# Altium integrated library PCIC.IntLib: 51 symbols
Pins are listed as number, name and electrical type; pins without a type are passive.

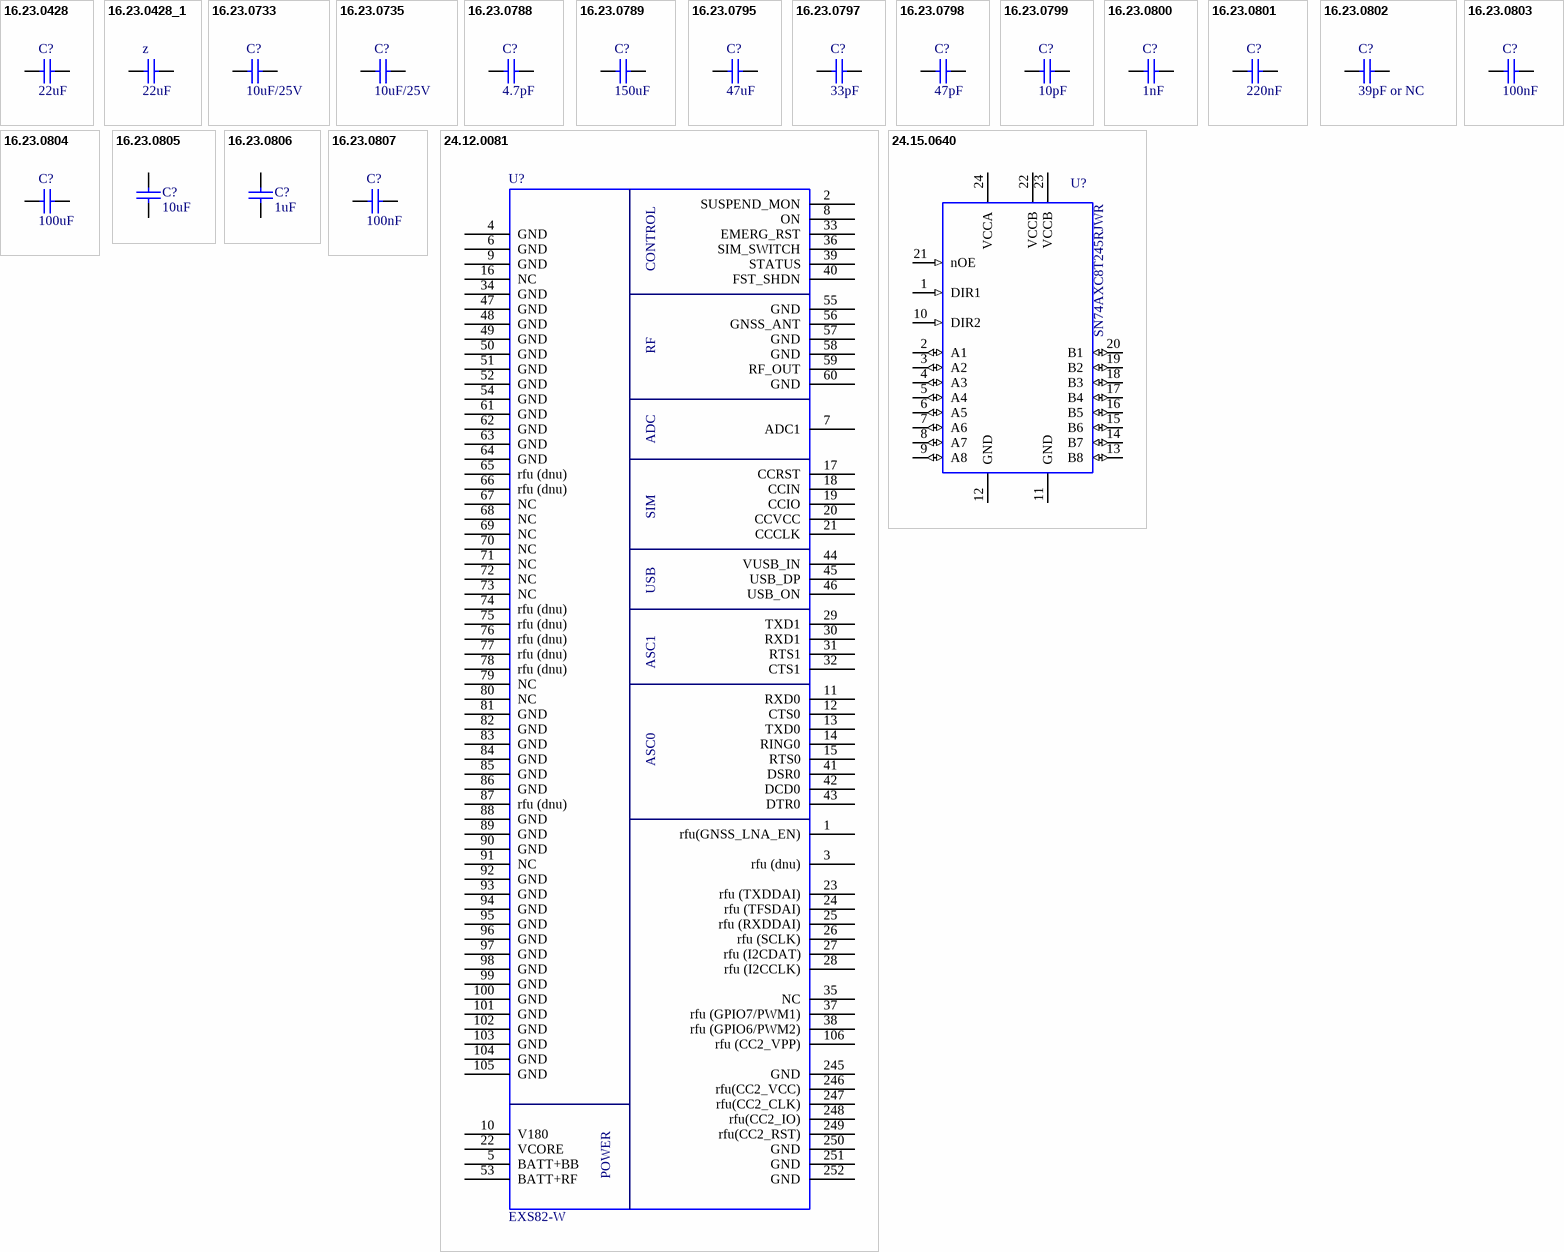
[diagram p0: symbols 16.23.0428 to 24.15.0640]

## 16.23.0428
designator C?  (value not drawn)
CC MUL 22uF 16V X5R 20% SMD 0805
footprint 16.23.0428 (CC MUL 22uF 16V X5R 20% SMD 0805)
pins: 1, 2
text: 22uF

## 16.23.0428_1
designator z, comment 16.23.0428  (value not drawn)
CC MUL 22uF 16V X5R 20% SMD 0805
footprint 16.23.0428 (CC MUL 22uF 16V X5R 20% SMD 0805)
pins: 1, 2
text: 22uF

## 16.23.0733
designator C?  value 10uF/25V  (hidden comment: 16.23.0733)
CAPACITOR CERAMICO MULTICAMADAS 10uF 25V 20% SMD 0603 X5R; Part Number: GRM188R61E106MA73; Fabricante: Murata
footprint 16.23.0733 (CAPACITOR CERAMICO MULTICAMADAS 10uF 25V X5R 20% SMD 0603)
pins: 1, 2

## 16.23.0735
designator C?  value 10uF/25V  (hidden comment: 16.23.0735)
CAPACITOR CERAMICO MULTICAMADAS 10uF 25V 10% SMD 0805 X5R; Part Number: GRM21BR61E106KA73; Fabricante: Murata
footprint 16.23.0735 (CAPACITOR CERAMICO MULTICAMADAS 10uF 25V X5R 10% SMD 0805)
pins: 1, 2

## 16.23.0788
designator C?  (value not drawn)
CAPACITOR CERAMICO MULTICAMADA 4.7PF 50V C0G/NP0 0402
footprint 16.23.0788 (CAPACITOR CERAMICO MULTICAMADA 4.7PF 50V C0G/NP0 0402)
pins: 1, 2
text: 4.7pF

## 16.23.0789
designator C?  (value not drawn)
CAPACITOR CERAMICO 150uF 20% 6.3V X5R SMD 1206
footprint 16.23.0789 (CAPACITOR CERAMICO 150uF 20% 6.3V X5R SMD 1206)
pins: 1, 2
text: 150uF

## 16.23.0795
designator C?  (value not drawn)
CERAMICO 47uF 10% 6.3V X5R SMD 1206
footprint 16.23.0795 (CAPACITOR CERAMICO 47uF 10% 6.3V X5R SMD 1206)
pins: 1, 2
text: 47uF

## 16.23.0797
designator C?  (value not drawn)
CAPACITOR CERAMICO 33pF 10V 5% C0G SMD 0201
footprint 16.23.0797 (CAPACITOR CERAMICO 33pF 10V 5% C0G SMD 0201)
pins: 1, 2
text: 33pF

## 16.23.0798
designator C?  (value not drawn)
CAPACITOR CERAMICO 47pF 10V 5% C0G SMD 0201
footprint 16.23.0798 (CAPACITOR CERAMICO 47pF 10V 5% C0G SMD 0201)
pins: 1, 2
text: 47pF

## 16.23.0799
designator C?  (value not drawn)
CAPACITOR CERAMICO 10pF 25V 5% C0G SMD 0201
footprint 16.23.0799 (CAPACITOR CERAMICO 10pF 25V 5% C0G SMD 0201)
pins: 1, 2
text: 10pF

## 16.23.0800
designator C?  (value not drawn)
CAPACITOR CERAMICO 1nF 25V 5% X7R SMD 0201
footprint 16.23.0800 (CAPACITOR CERAMICO 1nF 25V 5% X7R SMD 0201)
pins: 1, 2
text: 1nF

## 16.23.0801
designator C?  (value not drawn)
CAPACITOR CERAMICO 220nF 16V 10% X5R SMD 0201
footprint 16.23.0801 (CAPACITOR CERAMICO 220nF 16V 10% X5R SMD 0201)
pins: 1, 2
text: 220nF

## 16.23.0802
designator C?  (value not drawn)
CAPACITOR CERAMICO 39pF 100V 5% C0G SMD 0201
footprint 16.23.0802 (CAPACITOR CERAMICO 39pF 100V 5% C0G SMD 0201)
pins: 1, 2
text: 39pF or NC

## 16.23.0803
designator C?  (value not drawn)
CAPACITOR CERAMICO 100nF 16V 10% X5R SMD 0201
footprint 16.23.0803 (CAPACITOR CERAMICO 100nF 16V 10%% X5R SMD 0201)
pins: 1, 2
text: 100nF

## 16.23.0804
designator C?  value 100uF  (hidden comment: 16.23.0804)
CAPACITOR CERAMICO 100uF 6.3V 10% X5R SMD 1206
footprint 16.23.0804 (CAPACITOR CERAMICO 100uF 6.3V 10%% X5R SMD 1206)
pins: 1, 2
1 alternate drawing of the same symbol

## 16.23.0805
designator C?  value 10uF  (hidden comment: 16.23.0805)
CAPACITOR CERAMICO MULTICAMADAS 10uF 10V X5R 10% SMD 0603
footprint 16.23.0805 (CAPACITOR CERAMICO MULTICAMADAS 10uF 10V X5R 10% SMD 0603)
pins: 1, 2

## 16.23.0806
designator C?  value 1uF  (hidden comment: 16.23.0806)
CAPACITOR CERAMICO MULTICAMADAS 1uF 10V X5R 20% SMD 0201
footprint 16.23.0806 (CAPACITOR CERAMICO MULTICAMADAS 1uF 10V X5R 20% SMD 0201)
pins: 1, 2

## 16.23.0807
designator C?  value 100nF  (hidden comment: 16.23.0807)
CAPACITOR CERAMICO MULTICAMADAS 100nF 50V X7R 10% SMD 0402
footprint 16.23.0807 (CAPACITOR CERAMICO MULTICAMADAS 100nF 50V X7R 10% SMD 0402)
pins: 1, 2

## 24.12.0081
designator U?  value EXS82-W  (hidden comment: 24.12.0081)
CIRCUITO INTEGRADO DIG MOD COMUNICACAO MULTI REDES EXS82-W
footprint 24.12.0081 (CIRCUITO INTEGRADO DIG MOD COMUNICACAO MULTI REDES EXS82-W)
pins: 1 rfu(GNSS_LNA_EN), 2 SUSPEND_MON, 3 rfu (dnu), 4 GND, 5 BATT+BB, 6 GND, 7 ADC1, 8 ON, 9 GND, 10 V180, 11 RXD0, 12 CTS0, 13 TXD0, 14 RING0, 15 RTS0, 16 NC, 17 CCRST, 18 CCIN, 19 CCIO, 20 CCVCC, 21 CCCLK, 22 VCORE, 23 rfu (TXDDAI), 24 rfu (TFSDAI), 25 rfu (RXDDAI), 26 rfu (SCLK), 27 rfu (I2CDAT), 28 rfu (I2CCLK), 29 TXD1, 30 RXD1, 31 RTS1, 32 CTS1, 33 EMERG_RST, 34 GND, 35 NC, 36 SIM_SWITCH, 37 rfu (GPIO7/PWM1), 38 rfu (GPIO6/PWM2), 39 STATUS, 40 FST_SHDN, 41 DSR0, 42 DCD0, 43 DTR0, 44 VUSB_IN, 45 USB_DP, 46 USB_ON, 47 GND, 48 GND, 49 GND, 50 GND, 51 GND, 52 GND, 53 BATT+RF, 54 GND, 55 GND, 56 GNSS_ANT, 57 GND, 58 GND, 59 RF_OUT, 60 GND, 61 GND, 62 GND, 63 GND, 64 GND, 65 rfu (dnu), 66 rfu (dnu), 67 NC, 68 NC, 69 NC, 70 NC, 71 NC, 72 NC, 73 NC, 74 rfu (dnu), 75 rfu (dnu), 76 rfu (dnu), 77 rfu (dnu), 78 rfu (dnu), 79 NC, 80 NC, 81 GND, 82 GND, 83 GND, 84 GND, 85 GND, 86 GND, 87 rfu (dnu), 88 GND, 89 GND, 90 GND, 91 NC, 92 GND, 93 GND, 94 GND, 95 GND, 96 GND, 97 GND, 98 GND, 99 GND, 100 GND, 101 GND, 102 GND, 103 GND, 104 GND, 105 GND, 106 rfu (CC2_VPP), 245 GND, 246 rfu(CC2_VCC), 247 rfu(CC2_CLK), 248 rfu(CC2_IO), 249 rfu(CC2_RST), 250 GND, 251 GND, 252 GND
2 alternate drawings of the same symbol
text: CONTROL; RF; ADC; SIM; USB; ASC1; ASC0; POWER

## 24.15.0640
designator U?  value SN74AXC8T245RJWR  (hidden comment: 24.15.0640)
CID CONVERSOR NIVEL ALIMENTACAO DUPLA DIRECAO CONTROLADA 8 BITS 0.65V - 3.6V
footprint 24.15.0640 (CID CONVERSOR NIVEL ALIMENTACAO DUPLA DIRECAO CONTROLADA 8 BITS 0.65V - 3.6V)
pins: 1 DIR1 (in), 2 A1 (io), 3 A2 (io), 4 A3 (io), 5 A4 (io), 6 A5 (io), 7 A6 (io), 8 A7 (io), 9 A8 (io), 10 DIR2 (in), 11 GND (power), 12 GND (power), 13 B8 (io), 14 B7 (io), 15 B6 (io), 16 B5 (io), 17 B4 (io), 18 B3 (io), 19 B2 (io), 20 B1 (io), 21 nOE (in), 22 VCCB (power), 23 VCCB (power), 24 VCCA (power)

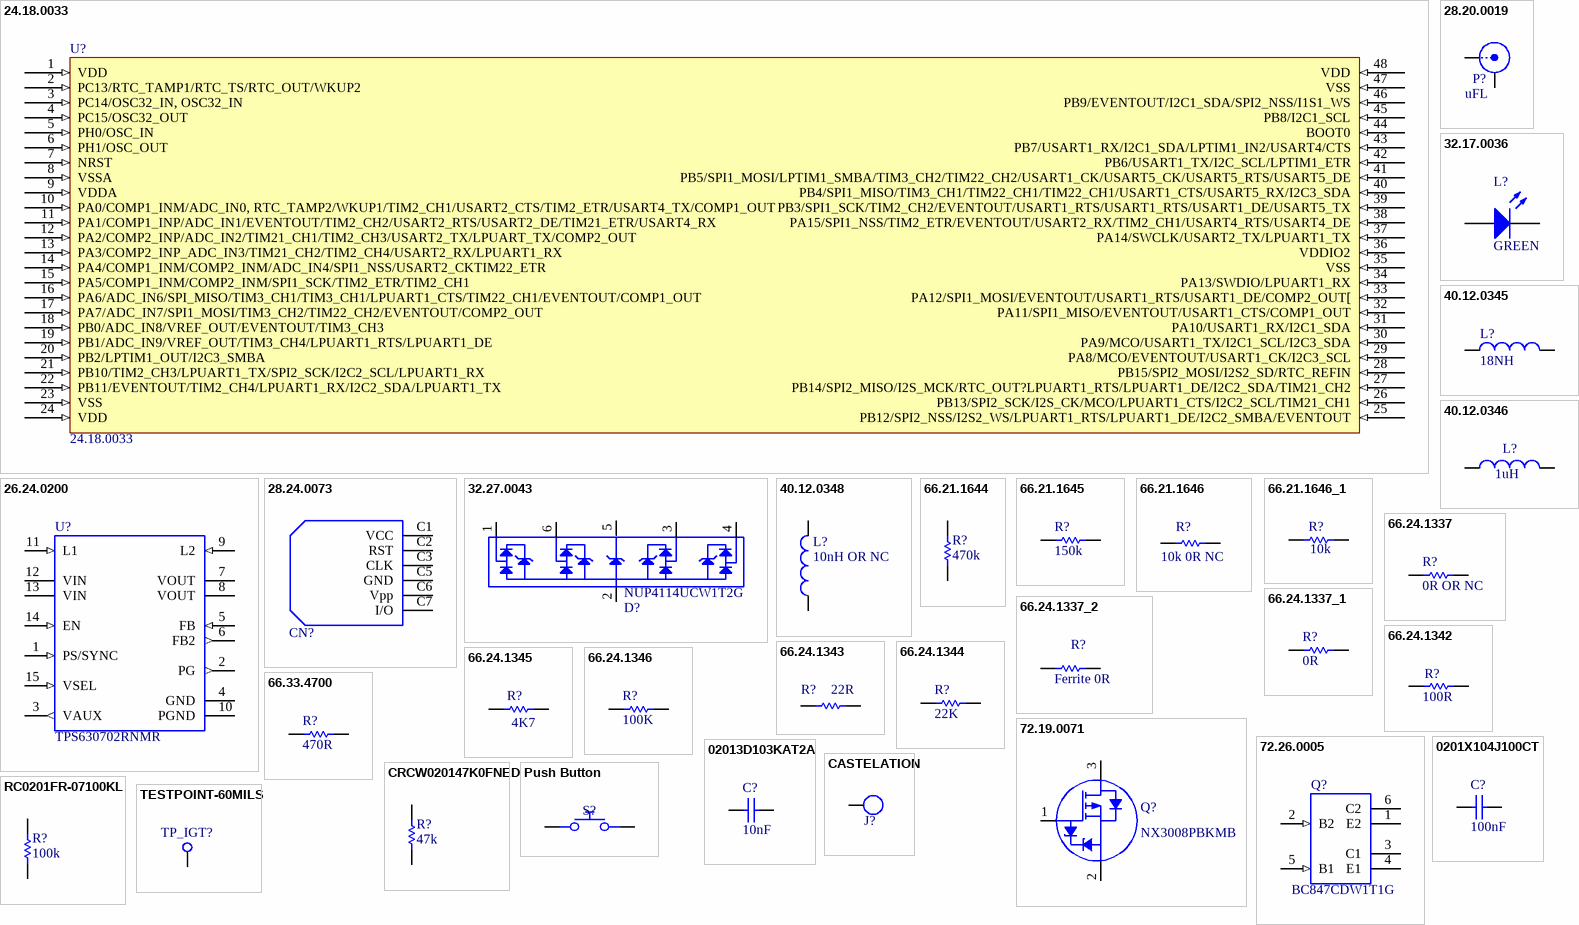
[diagram p1: symbols 24.18.0033 to TESTPOINT-60MILS]

## 24.18.0033
designator U?
MICROCONTROLADOR 32BITS ARM 192KB FLASH 48 PINOS LQFP; Part Number: STM32L071CZTx; Manufactor: STMICROELETRONICS; ComponentLink1Description: Value; ComponentLink1URL: STM32L071CZTx
footprint 24.18.0033 (MICROCONTROLADOR 32BITS ARM 192KB FLASH 48 PINOS LQFP)
pins: 1 VDD (in), 2 PC13/RTC_TAMP1/RTC_TS/RTC_OUT/WKUP2 (in), 3 PC14/OSC32_IN, OSC32_IN (in), 4 PC15/OSC32_OUT (in), 5 PH0/OSC_IN (in), 6 PH1/OSC_OUT (in), 7 NRST (in), 8 VSSA (in), 9 VDDA (in), 10 PA0/COMP1_INM/ADC_IN0, RTC_TAMP2/WKUP1/TIM2_CH1/USART2_CTS/TIM2_ETR/USART4_TX/COMP1_OUT (in), 11 PA1/COMP1_INP/ADC_IN1/EVENTOUT/TIM2_CH2/USART2_RTS/USART2_DE/TIM21_ETR/USART4_RX (in), 12 PA2/COMP2_INP/ADC_IN2/TIM21_CH1/TIM2_CH3/USART2_TX/LPUART_TX/COMP2_OUT (in), 13 PA3/COMP2_INP_ADC_IN3/TIM21_CH2/TIM2_CH4/USART2_RX/LPUART1_RX (in), 14 PA4/COMP1_INM/COMP2_INM/ADC_IN4/SPI1_NSS/USART2_CKTIM22_ETR (in), 15 PA5/COMP1_INM/COMP2_INM/SPI1_SCK/TIM2_ETR/TIM2_CH1 (in), 16 PA6/ADC_IN6/SPI_MISO/TIM3_CH1/TIM3_CH1/LPUART1_CTS/TIM22_CH1/EVENTOUT/COMP1_OUT (in), 17 PA7/ADC_IN7/SPI1_MOSI/TIM3_CH2/TIM22_CH2/EVENTOUT/COMP2_OUT (in), 18 PB0/ADC_IN8/VREF_OUT/EVENTOUT/TIM3_CH3 (in), 19 PB1/ADC_IN9/VREF_OUT/TIM3_CH4/LPUART1_RTS/LPUART1_DE (in), 20 PB2/LPTIM1_OUT/I2C3_SMBA (in), 21 PB10/TIM2_CH3/LPUART1_TX/SPI2_SCK/I2C2_SCL/LPUART1_RX (in), 22 PB11/EVENTOUT/TIM2_CH4/LPUART1_RX/I2C2_SDA/LPUART1_TX (in), 23 VSS (in), 24 VDD (in), 25 PB12/SPI2_NSS/I2S2_WS/LPUART1_RTS/LPUART1_DE/I2C2_SMBA/EVENTOUT (in), 26 PB13/SPI2_SCK/I2S_CK/MCO/LPUART1_CTS/I2C2_SCL/TIM21_CH1 (in), 27 PB14/SPI2_MISO/I2S_MCK/RTC_OUT?LPUART1_RTS/LPUART1_DE/I2C2_SDA/TIM21_CH2 (in), 28 PB15/SPI2_MOSI/I2S2_SD/RTC_REFIN (in), 29 PA8/MCO/EVENTOUT/USART1_CK/I2C3_SCL (in), 30 PA9/MCO/USART1_TX/I2C1_SCL/I2C3_SDA (in), 31 PA10/USART1_RX/I2C1_SDA (in), 32 PA11/SPI1_MISO/EVENTOUT/USART1_CTS/COMP1_OUT (in), 33 PA12/SPI1_MOSI/EVENTOUT/USART1_RTS/USART1_DE/COMP2_OUT[ (in), 34 PA13/SWDIO/LPUART1_RX (in), 35 VSS (in), 36 VDDIO2 (in), 37 PA14/SWCLK/USART2_TX/LPUART1_TX (in), 38 PA15/SPI1_NSS/TIM2_ETR/EVENTOUT/USART2_RX/TIM2_CH1/USART4_RTS/USART4_DE (in), 39 PB3/SPI1_SCK/TIM2_CH2/EVENTOUT/USART1_RTS/USART1_RTS/USART1_DE/USART5_TX (in), 40 PB4/SPI1_MISO/TIM3_CH1/TIM22_CH1/TIM22_CH1/USART1_CTS/USART5_RX/I2C3_SDA (in), 41 PB5/SPI1_MOSI/LPTIM1_SMBA/TIM3_CH2/TIM22_CH2/USART1_CK/USART5_CK/USART5_RTS/USART5_DE (in), 42 PB6/USART1_TX/I2C_SCL/LPTIM1_ETR (in), 43 PB7/USART1_RX/I2C1_SDA/LPTIM1_IN2/USART4/CTS (in), 44 BOOT0 (in), 45 PB8/I2C1_SCL (in), 46 PB9/EVENTOUT/I2C1_SDA/SPI2_NSS/I1S1_WS (in), 47 VSS (in), 48 VDD (in)

## 26.24.0200
designator U?  value TPS630702RNMR  (hidden comment: 26.24.0200)
CI REGULADOR TENSAO CHAV AJUST 2A16V 2A DESC SAIDA VQFN-HR
footprint 26.24.0200 (CI REGULADOR TENSAO CHAV AJUST 2A16V 2A DESC SAIDA VQFN-HR)
pins: 1 PS/SYNC (in), 2 PG (out), 3 VAUX (out), 4 GND, 5 FB (in), 6 FB2 (out), 7 VOUT (power), 8 VOUT (power), 9 L2 (in), 10 PGND (power), 11 L1 (in), 12 VIN (power), 13 VIN (power), 14 EN (in), 15 VSEL (in)

## 28.20.0019
designator P?  value uFL  (hidden comment: 28.20.0019)
CONECTOR MICRO COAXIAL 50 OHM SMD
footprint 28.20.0019 (CONECTOR MICRO COAXIAL 50 OHM SMD)
pins: 1 SIG, 2 GND (power), 3 GND (power)

## 28.24.0073
designator CN?, comment SIMCARD-6X6  (value not drawn)
CONECTOR FM NANO-D 6 VIAS - BRONZE
footprint 28.24.0073 (CONECTOR FM NANO-D 6 VIAS - BRONZE)
pins: C1 VCC, C2 RST, C3 CLK, C5 GND, C6 Vpp, C7 I/O

## 32.17.0036
designator L?  (value not drawn)
LED VERDE 0603 SMD
footprint 32.17.0036 (LED VERDE 0603 SMD)
pins: A, K
text: GREEN

## 32.27.0043
designator D?  (value not drawn)
DIODO SUPRESSOR 5.5V 10V SC88
footprint 32.27.0043 (DIODO SUPRESSOR 5.5V 10V SC88)
pins: 1, 2 (power), 3, 4, 5 (power), 6
text: NUP4114UCW1T2G

## 40.12.0345
designator L?  value 18NH  (hidden comment: 40.12.0345)
INDUTOR FIXO 18NH 370MA 270 MOHM 0402
footprint 40.12.0345 (INDUTOR FIXO 18NH 370MA 270 MOHM 0402)
pins: 1, 2

## 40.12.0346
designator L?  value 1uH  (hidden comment: 40.12.0346)
INDUTOR FIXO 1uH 20% 5A 36mOHM SMD 1008
footprint 40.12.0346 (INDUTOR FIXO 1uH 20% 5A 36mOHM SMD 1008)
pins: 1, 2

## 40.12.0348
designator L?  value 10nH OR NC  (hidden comment: 40.12.0348)
INDUTOR FIXO 10nH 3% 500mA 260mOHM 0402; Manufactor: MURATA; Part Number: LQG15HS10NH02D
footprint 40.12.0348 (INDUTOR FIXO 10nH 3% 500mA 260mOHM 0402)
pins: 1, 2

## 66.21.1644
designator R?  value 470k  (hidden comment: 66.21.1644)
RESISTOR THICK FILM 470k OHMS 25V 0.05W 1% SMD 0201
footprint 66.21.1644 (RESISTOR THICK FILM 470k OHMS 25V 0.05W 1% SMD 0201)
pins: 1, 2

## 66.21.1645
designator R?  value 150k  (hidden comment: 66.21.1645)
RESISTOR THICK FILM 150k OHMS 25V 0.05W 1% SMD 0201
footprint 66.21.1645 (RESISTOR THICK FILM 150k OHMS 25V 0.05W 1% SMD 0201)
pins: 1, 2

## 66.21.1646
designator R?  value 10k 0R NC  (hidden comment: 66.21.1646)
RESISTOR THICK FILM 10k OHMS 25V 0.05W 1% SMD 0201
footprint 66.21.1646 (RESISTOR THICK FILM 10k OHMS 25V 0.05W 1% SMD 0201)
pins: 1, 2

## 66.21.1646_1
designator R?, comment value 10k  (hidden comment: 66.21.1646)
RESISTOR THICK FILM 10k OHMS 25V 0.05W 1% SMD 0201
footprint 66.21.1646 (RESISTOR THICK FILM 10k OHMS 25V 0.05W 1% SMD 0201)
pins: 1, 2

## 66.24.1337
designator R?  value 0R OR NC  (hidden comment: 66.24.1337)
RESISTOR THICK FILM 0,1W 0 OHMS SMD 0603
footprint 66.24.1337 (RESISTOR THICK FILM 0,1W 0 OHMS SMD 0603)
pins: 1, 2

## 66.24.1337_1
designator R?, comment value 0R  (hidden comment: 66.24.1337)
RESISTOR THICK FILM 0,1W 0 OHMS SMD 0603
footprint 66.24.1337 (RESISTOR THICK FILM 0,1W 0 OHMS SMD 0603)
pins: 1, 2

## 66.24.1337_2
designator R?, comment value Ferrite 0R  (hidden comment: 66.24.1337)
RESISTOR THICK FILM 0,1W 0 OHMS SMD 0603
footprint 66.24.1337 (RESISTOR THICK FILM 0,1W 0 OHMS SMD 0603)
pins: 1, 2

## 66.24.1342
designator R?  value 100R  (hidden comment: 66.24.1342)
RESISTOR THICK FILM 50mW 100 OHMS 1% SMD 0201
footprint 66.24.1342 (RESISTOR THICK FILM 50mW 100 OHMS 1% SMD 0201)
pins: 1, 2

## 66.24.1343
designator R?  value 22R  (hidden comment: 66.24.1343)
RESISTOR THICK FILM 50mW 22 OHMS 1% SMD 0201
footprint 66.24.1343 (RESISTOR THICK FILM 50mW 22 OHMS 1% SMD 0201)
pins: 1, 2

## 66.24.1344
designator R?  value 22K  (hidden comment: 66.24.1344)
RESISTOR THICK FILM 50mW 22K OHMS 1% SMD 0201
footprint 66.24.1344 (RESISTOR THICK FILM 50mW 22K OHMS 1% SMD 0201)
pins: 1, 2

## 66.24.1345
designator R?  value 4K7  (hidden comment: 66.24.1345)
RESISTOR THICK FILM 50mW 4K7 OHMS 1% SMD 0201
footprint 66.24.1345 (RESISTOR THICK FILM 50mW 4K7 OHMS 1% SMD 0201)
pins: 1, 2

## 66.24.1346
designator R?  value 100K  (hidden comment: 66.24.1346)
RESISTOR THICK FILM 50mW 100K OHMS 1% SMD 0201
footprint 66.24.1346 (RESISTOR THICK FILM 50mW 100K OHMS 1% SMD 0201)
pins: 1, 2

## 66.33.4700
designator R?  value 470R  (hidden comment: 66.33.4700)
RES MET 0,125W 470 OHMS 5% SMD 0805
footprint 66.33.4700 (RES MET 0,125W 470 OHMS 5% SMD 0805)
pins: 1, 2

## 72.19.0071
designator Q?  (value not drawn)
MOSFET CANAL P SMD 30V 230mA SOT883B
footprint 72.19.0071 (MOSFET CANAL P SMD 30V 230mA SOT883B)
pins: 1 G, 2 S, 3 D
text: NX3008PBKMB

## 72.26.0005
designator Q?  (value not drawn)
TRANSISTOR DUPLO NPN BC847 SMD SOT363
footprint 72.26.0005 (TRANSISTOR DUPLO NPN BC847 SMD SOT363)
pins: 1 E2 (oe), 2 B2 (in), 3 C1 (oc), 4 E1 (oe), 5 B1 (in), 6 C2 (oc)
text: BC847CDW1T1G

## 0201X104J100CT
designator C?, comment Adicionado  (value not drawn)
CAPACITOR CERAMICO 100nF 10V 5% X5R SMD 0201
footprint 0201 (Adicionado)
pins: 1, 2
text: 100nF

## 02013D103KAT2A
designator C?, comment Adicionado  (value not drawn)
CAPACITOR CERAMICO 10nF 25V 10% C0G SMD 0201
footprint 0201 (Adicionado)
pins: 1, 2
text: 10nF

## CASTELATION
designator J?  (value not drawn)
footprint CASTELATION
pins: 1

## CRCW020147K0FNED
designator R?, comment value 47k  (hidden comment: Adicionado)
RESISTOR THICK FILM 47k OHMS 30V 50mW 1% SMD 0201
footprint 0201 (Adicionado)
pins: 1, 2

## Push Button
designator S?, comment Adicionado  (value not drawn)
TACTILE SWITCH SPST 0.05A 12VDC SMD; Manufacturer: C&K Switches; Part Number: PTS540JK035SMTRLFS; Voltage Rating (DC): 12V; Current Rating: 50mA; Switch Function: Off-On; Operating Force: 230gf; Library Control - Checked Footprint: Yes; Library Control - Person that Checked Schematic: Nícolas; Bounce time (MAX): 10ms; ComponentLink1Description: Datasheet; ComponentLink1URL: https://www.mouser.com/datasheet/2/60/pts540-1841856.pdf; ComponentLink2Description: Mouser Link; ComponentLink2URL: https://www.mouser.com/ProductDetail/CK/PTS540JK035SMTRLFS?qs=nsc5Ve2%252BdoHscnqTjIh87g%3D%3D; Supplier 1: Mouser; Category: Tactile Switches; Pricing 1: 1=0,18, 10=0,174, 100=0,15, 500=0,122, 1000=0,103 (USD); Throw Configuration: SPST; Orientation: Straight; Supplier Part Number 1: 611-PTS540JK035SMTRL; Library Ref: Diversos; Library Control - Checked Schematic: Yes; Library Control - Person that Checked Footprint: Nícolas; Library Control - Person that did the Last Update Schematic: Nícolas
footprint PUSH_BUTTON
pins: 1, 2

## RC0201FR-07100KL
designator R?, comment value 100k  (hidden comment: Adicionado)
RESISTOR THICK FILM 100k OHMS 25V 50mW 1% SMD 0201
footprint 0201 (Adicionado)
pins: 1, 2

## TESTPOINT-60MILS
designator TP_IGT?, comment TESTPOINT  (value not drawn)
PONTO DE TESTE PARA CAMA DE PREGO
footprint TESTPOINT-60MILS
pins: 1 TP